# EAGLE library part LM833 (library EVSE)
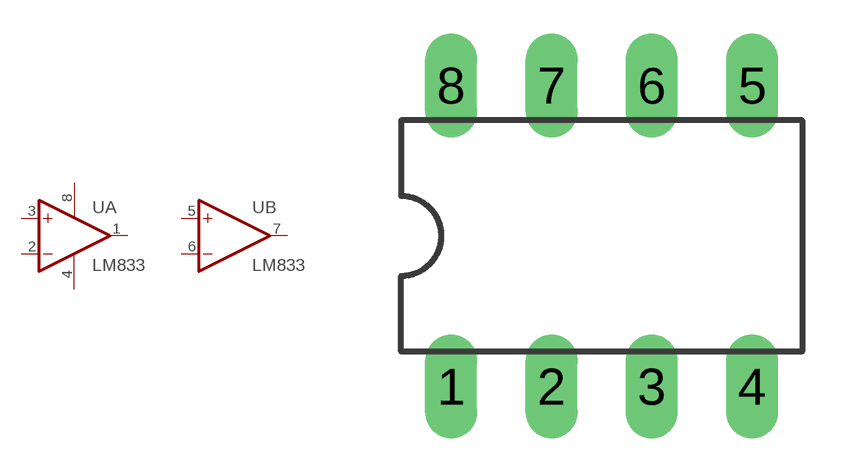
[diagram p1: symbol with the pads of DIL08-LONG; footprint DIL08-LONG]

Designator prefix -; gates A=OPAMP B=OPAMP P=PWR+-

## LM833N  [DIL08-LONG]
1  A:OUT  out
2  A:-IN  in
3  A:+IN  in
4  P:V-  pwr
5  B:+IN  in
6  B:-IN  in
7  B:OUT  out
8  P:V+  pwr

## Footprint DIL08-LONG (pad centres in mm)
Dual In Line Package
drill 0.813 long: 1 -3.81,-3.81; 2 -1.27,-3.81; 3 1.27,-3.81; 4 3.81,-3.81; 5 3.81,3.81; 6 1.27,3.81; 7 -1.27,3.81; 8 -3.81,3.81